# Altium footprint library std-smt.PcbLib: 52 footprints (part 3 of 4)
Each footprint in its own frame and in the unit in brackets; x right, y up, seen from the top. Pads: shape width x height; smd on the part's side, far side on the other; paste and mask are expansions set on the pad; w line width, h text height; cw(c..) or ccw(c..) is an arc to the next point about the centre after c.
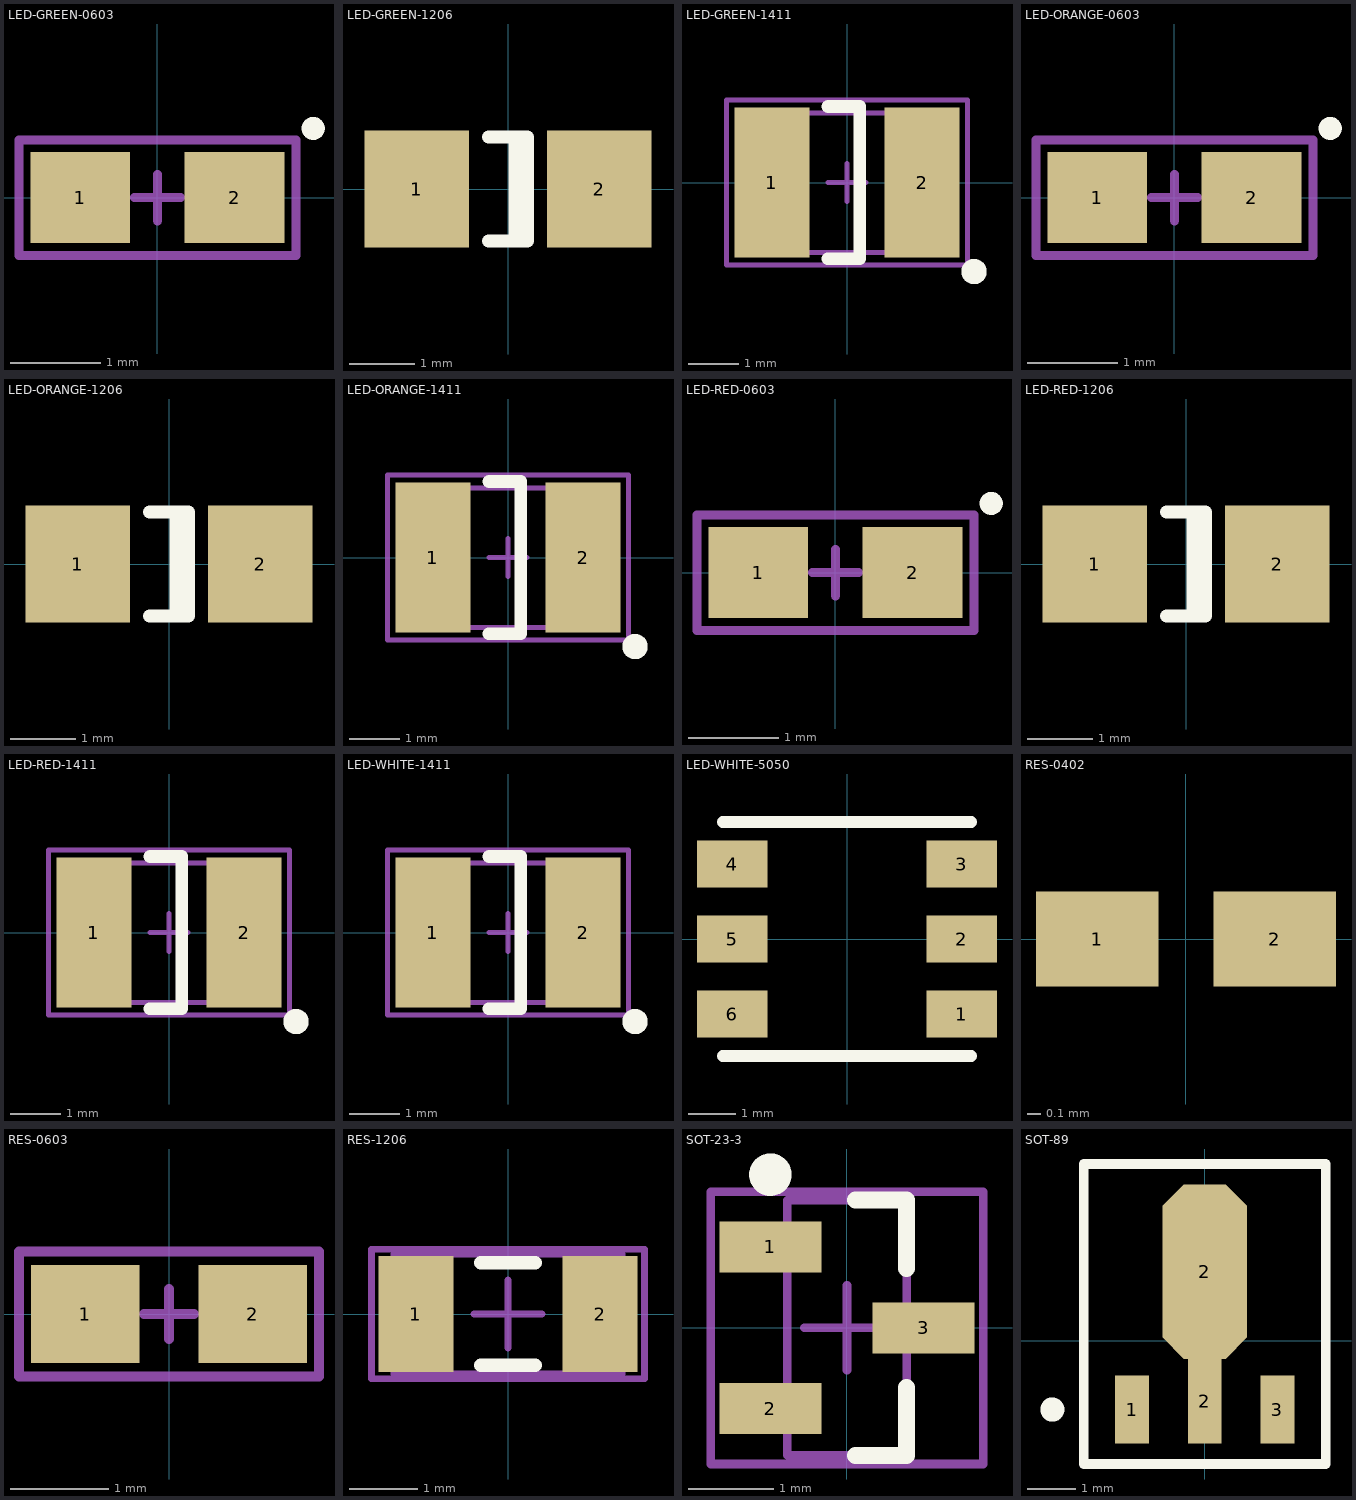
[diagram p2: the footprints below, top view; thin cyan lines are the x and y axes]

## LED-GREEN-0603 [mm] "SMD LED, Green, 0603"
height 1.143
pads (2):
  rect 1.1x1 smd: 1(-0.85,0) 2(0.85,0)
Top Overlay:
  circle w0.127: c1.714,0.762 r0.064
Mechanical 15:
  lines w0.1: -0.254,0 0.254,0 ; 0,-0.254 0,0.254 ; -1.524,-0.635 -1.524,0.635 1.524,0.635 1.524,-0.635 -1.524,-0.635
3D body "User Library-led0603_GRE.step": height 1.1, standoff 0, extent -0.81,-0.4 0.81,0.4

## LED-GREEN-1206 [mm] "SMD LED, green, 1206"
height 1.35
pads (2):
  rect 1.6x1.8 smd: 1(-1.4,0) 2(1.4,0)
Top Overlay:
  lines w0.2: -0.3,-0.8 0.3,-0.8 0.3,0.8 -0.3,0.8 ; 0.11,-0.8 0.11,0.8
3D body "1206-led-green.step": height 1.11, standoff -0.4, extent -1.6,-0.787 1.6,0.813

## LED-GREEN-1411 [mm] "Led, Green, 2.8 mm x 3.5 mm body, SMD"
height 1.9
pads (2):
  rect 1.5x3 smd: 1(-1.5,0) 2(1.5,0)
Top Overlay:
  circle w0.254: c2.54,-1.778 r0.127
  lines w0.254: -0.381,-1.524 0.254,-1.524 0.254,1.524 -0.381,1.524
Mechanical 13:
  lines w0.1: -1.778,-1.397 1.778,-1.397 1.778,1.397 -1.778,1.397 -1.778,-1.397
Mechanical 15:
  lines w0.1: -0.381,0 0.381,0 ; 0,-0.381 0,0.381 ; -2.413,-1.651 -2.413,1.651 2.413,1.651 2.413,-1.651 -2.413,-1.651
3D body "User Library-LED SMD Mini LED super red.step": height 1.75, standoff -0.06, extent -1.75,-1.4 1.75,1.4
3D body: height 1.1, standoff 0.6, extent -1.19,-1.198 1.2,1.198

## LED-ORANGE-0603 [mm] "SMD LED, Orange, 0603"
height 1.143
pads (2):
  rect 1.1x1 smd: 1(-0.85,0) 2(0.85,0)
Top Overlay:
  circle w0.127: c1.714,0.762 r0.064
Mechanical 15:
  lines w0.1: -0.254,0 0.254,0 ; 0,-0.254 0,0.254 ; -1.524,-0.635 1.524,-0.635 1.524,0.635 -1.524,0.635 -1.524,-0.635
3D body "User Library-led0603_YEL.step": height 1.1, standoff 0, extent -0.81,-0.4 0.81,0.4

## LED-ORANGE-1206 [mm] "SMD LED, orange, 1206"
height 1.35
pads (2):
  rect 1.6x1.8 smd: 1(-1.4,0) 2(1.4,0)
Top Overlay:
  lines w0.2: -0.3,-0.8 0.3,-0.8 0.3,0.8 -0.3,0.8 ; 0.11,-0.8 0.11,0.8
3D body "1206-led-orange.step": height 1.11, standoff -0.4, extent -1.6,-0.787 1.6,0.813

## LED-ORANGE-1411 [mm] "Led, Orange, 2.8 mm x 3.5 mm body, SMD"
height 1.9
pads (2):
  rect 1.5x3 smd: 1(-1.5,0) 2(1.5,0)
Top Overlay:
  circle w0.254: c2.54,-1.778 r0.127
  lines w0.254: -0.381,-1.524 0.254,-1.524 0.254,1.524 -0.381,1.524
Mechanical 13:
  lines w0.1: -1.778,-1.397 1.778,-1.397 1.778,1.397 -1.778,1.397 -1.778,-1.397
Mechanical 15:
  lines w0.1: -0.381,0 0.381,0 ; 0,-0.381 0,0.381 ; -2.413,-1.651 -2.413,1.651 2.413,1.651 2.413,-1.651 -2.413,-1.651
3D body "User Library-LED SMD Mini LED super red.step": height 1.75, standoff -0.06, extent -1.75,-1.4 1.75,1.4
3D body: height 1.1, standoff 0.6, extent -1.19,-1.198 1.2,1.198

## LED-RED-0603 [mm] "SMD LED, Red, 0603"
height 1.143
pads (2):
  rect 1.1x1 smd: 1(-0.85,0) 2(0.85,0)
Top Overlay:
  circle w0.127: c1.714,0.762 r0.064
Mechanical 15:
  lines w0.1: -0.254,0 0.254,0 ; 0,-0.254 0,0.254 ; -1.524,-0.635 1.524,-0.635 1.524,0.635 -1.524,0.635 -1.524,-0.635
3D body "User Library-led0603_RED.step": height 1.1, standoff 0, extent -0.81,-0.4 0.81,0.4

## LED-RED-1206 [mm] "SMD LED, red, 1206"
height 1.35
pads (2):
  rect 1.6x1.8 smd: 1(-1.4,0) 2(1.4,0)
Top Overlay:
  lines w0.2: -0.3,-0.8 0.3,-0.8 0.3,0.8 -0.3,0.8 ; 0.11,-0.8 0.11,0.8
3D body "1206-led-red.step": height 1.11, standoff -0.4, extent -1.6,-0.787 1.6,0.813

## LED-RED-1411 [mm] "Led, RED, 2.8 mm x 3.5 mm body, SMD"
height 1.9
pads (2):
  rect 1.5x3 smd: 1(-1.5,0) 2(1.5,0)
Top Overlay:
  circle w0.254: c2.54,-1.778 r0.127
  lines w0.254: -0.381,-1.524 0.254,-1.524 0.254,1.524 -0.381,1.524
Mechanical 13:
  lines w0.1: -1.778,-1.397 -1.778,1.397 1.778,1.397 1.778,-1.397 -1.778,-1.397
Mechanical 15:
  lines w0.1: -0.381,0 0.381,0 ; 0,-0.381 0,0.381 ; -2.413,-1.651 -2.413,1.651 2.413,1.651 2.413,-1.651 -2.413,-1.651
3D body "User Library-LED SMD Mini LED super red.step": height 1.75, standoff -0.06, extent -1.75,-1.4 1.75,1.4
3D body: height 1.1, standoff 0.6, extent -1.19,-1.198 1.2,1.198

## LED-WHITE-1411 [mm] "Led, White, 2.8 mm x 3.5 mm body, SMD"
height 1.9
pads (2):
  rect 1.5x3 smd: 1(-1.5,0) 2(1.5,0)
Top Overlay:
  circle w0.254: c2.54,-1.778 r0.127
  lines w0.254: -0.381,-1.524 0.254,-1.524 0.254,1.524 -0.381,1.524
Mechanical 13:
  lines w0.1: -1.778,-1.397 -1.778,1.397 1.778,1.397 1.778,-1.397 -1.778,-1.397
Mechanical 15:
  lines w0.1: -0.381,0 0.381,0 ; 0,-0.381 0,0.381 ; -2.413,-1.651 -2.413,1.651 2.413,1.651 2.413,-1.651 -2.413,-1.651
3D body: height 1.1, standoff 0.6, extent -1.19,-1.198 1.2,1.198
3D body "User Library-LED SMD Mini LED super red.step": height 1.75, standoff -0.06, extent -1.75,-1.4 1.75,1.4

## LED-WHITE-5050 [mm] "LED, white, SMD, 5050"
height 2
pads (6):
  rect 1.5x1 smd: 1(2.45,-1.6) 2(2.45,0) 3(2.45,1.6) 4(-2.45,1.6) 5(-2.45,0) 6(-2.45,-1.6)
Top Overlay:
  lines w0.254: -2.65,-2.5 2.65,-2.5 ; -2.65,2.5 2.65,2.5
3D body "User Library-smd_led_5050.step": height 1.6, standoff 0, extent -2.65,-2.5 2.65,2.5

## RES-0402 [mm] "Resistor, SMD, 0402"
height 0.508
pads (2):
  rect 0.9x0.7 smd: 1(-0.65,0) 2(0.65,0)
3D body "0402-res.step": height 0.4, standoff 0, extent -0.5,-0.25 0.5,0.25

## RES-0603 [mm] "SMD resistor, 0603"
height 1.397
pads (2):
  rect 1.1x1 smd: 1(-0.85,0) 2(0.85,0)
Mechanical 15:
  lines w0.1: -0.254,0 0.254,0 ; 0,-0.254 0,0.254 ; -1.524,-0.635 -1.524,0.635 1.524,0.635 1.524,-0.635 -1.524,-0.635
3D body "0603-res.step": height 0.55, standoff 0, extent -0.8,-0.4 0.8,0.4

## RES-1206 [mm] "SMD resistor, 1206"
height 0.635
pads (2):
  rect 1.1x1.7 smd: 1(-1.35,0) 2(1.35,0)
Top Overlay:
  lines w0.2: -0.4,-0.75 0.4,-0.75 ; -0.4,0.75 0.4,0.75
Mechanical 13:
  lines w0.1: -1.675,-0.875 1.675,-0.875 1.675,0.875 -1.675,0.875 -1.675,-0.875
Mechanical 15:
  lines w0.1: -0.5,0 0.5,0 ; 0,-0.5 0,0.5 ; -2,-0.95 2,-0.95 2,0.95 -2,0.95 -2,-0.95
3D body "1206-res.step": height 1, standoff 0, extent -1.6,-0.8 1.6,0.8

## SOT-23-3 [mm] "SOT23, 3-Leads, Body 2.9x1.3mm, Pitch 0.95mm, Lead Span 2.5mm, IPC High Density"
height 1.1
pads (3):
  rect 1.2x0.6 smd: 1(-0.9,0.95) 2(-0.9,-0.95) 3(0.9,0)
Top Overlay:
  circle w0.25: c-0.9,1.8 r0.125
  lines w0.2: 0.1,-1.5 0.7,-1.5 0.7,-0.7 ; 0.1,1.5 0.7,1.5 0.7,0.7
Mechanical 13:
  lines w0.1: -0.7,-1.5 -0.7,1.5 0.7,1.5 0.7,-1.5 -0.7,-1.5
Mechanical 15:
  lines w0.1: -0.5,0 0.5,0 ; 0,-0.5 0,0.5 ; -1.6,-1.6 -1.6,1.6 1.6,1.6 1.6,-1.6 -1.6,-1.6
3D body "SOT-23.step": height 1.05, standoff -0.05, extent -1.25,-1.5 1.25,1.5

## SOT-89 [mm] "SOT-89; Body 4.7 x 4.5 mm, inc. leads (LxW max)"
height 1.7
pads (4):
  rect 0.7x1.4 smd: 1(-1.5,-1.425) 3(1.5,-1.425)
  rect 0.7x1.75 smd: 2(0,-1.25)
  oct 1.75x3.6 smd: 2(0,1.425)
Top Overlay:
  circle w0.25: c-3.15,-1.425 r0.125
  lines w0.2: -2.5,-2.55 2.5,-2.55 2.5,3.65 -2.5,3.65 -2.5,-2.55
3D body "SOT-89.step": height 1.51, standoff 0, extent -2.25,-1.6 2.25,2.7